# Altium schematic symbol library Supervisor.SchLib: 1 symbol
Pins are listed as number, name and electrical type; pins without a type are passive.

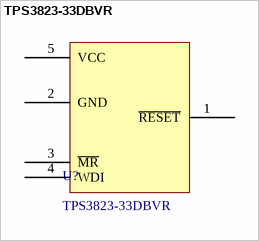
[diagram p0: symbol TPS3823-33DBVR]

## TPS3823-33DBVR
designator U?
Supervisory Circuits 2.93V Monitor; Manufacturer: Texas Instruments; Supply Voltage - Max: 5.5 V; Supply Voltage - Min: 1.1 V; Accuracy: 2.4%; Battery Backup Switching: No Backup; Chip Enable Signals: No Chip Enable; Number of Inputs Monitored: 1 Input; Operating Supply Current: 15 uA; Output Current: 10 mA; Output Type: Active Low, Push-Pull; Overvoltage Threshold: 3 V; Pd - Power Dissipation: 437 mW; Power Fail Detection: No; Reset Delay Time: 200 ms; Watchdog Timers: Watchdog; ComponentLink1Description: Datasheet; ComponentLink1URL: https://www.ti.com/lit/gpn/tps3823; LCSC Part #: C7719; Manufacturer Part Number: TPS3823-33DBVR; Mount: SMD/SMT; Operating Temperature Max: + 85 C; Operating Temperature Min: - 40 C; Package / Case: SOT-23-5; Packaging: Tape and Reel; Supplier 1: Mouser; Supplier 1 Part Number: 595-TPS3823-33DBVR; Supplier 1 URL: https://www.mouser.com/ProductDetail/Texas-Instruments/TPS3823-33DBVR?qs=mTHRaKC2c7OFNY0AQKcsRQ%3D%3D; Supplier 2: Digi-Key; Supplier 2 Part Number: N/A; Supplier 2 URL: N/A; Supplier 3: thegioiic; Supplier 3 Part Number: N/A; Supplier 3 URL: N/A; Value: TPS3823-33DBVR; Manual Reset: Manual Reset; Threshold Voltage: 2.93 V; Undervoltage Threshold: 2.93 V
footprint TPS382x-SOT-23-5 (SOT23, 5-Leads, Body 2.90x2.80mm, Pitch 0.95mm, IPC Medium Density)
pins: 1 ~{RESET}, 2 GND, 3 ~{MR}, 4 WDI, 5 VCC